# Altium schematic symbol library Anderson Power 30Amp.SchLib: 1 symbol
Pins are listed as number, name and electrical type; pins without a type are passive.

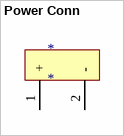
[diagram p0: symbol Power Conn]

## Power Conn
designator *
footprint 12Ga Power Connection
pins: 1 +, 2 -